# Altium footprint library CAPC2012X145L30N.PcbLib: 1 footprints
Each footprint in its own frame and in the unit in brackets; x right, y up, seen from the top. Pads: shape width x height; smd on the part's side, far side on the other; paste and mask are expansions set on the pad; w line width, h text height; cw(c..) or ccw(c..) is an arc to the next point about the centre after c.
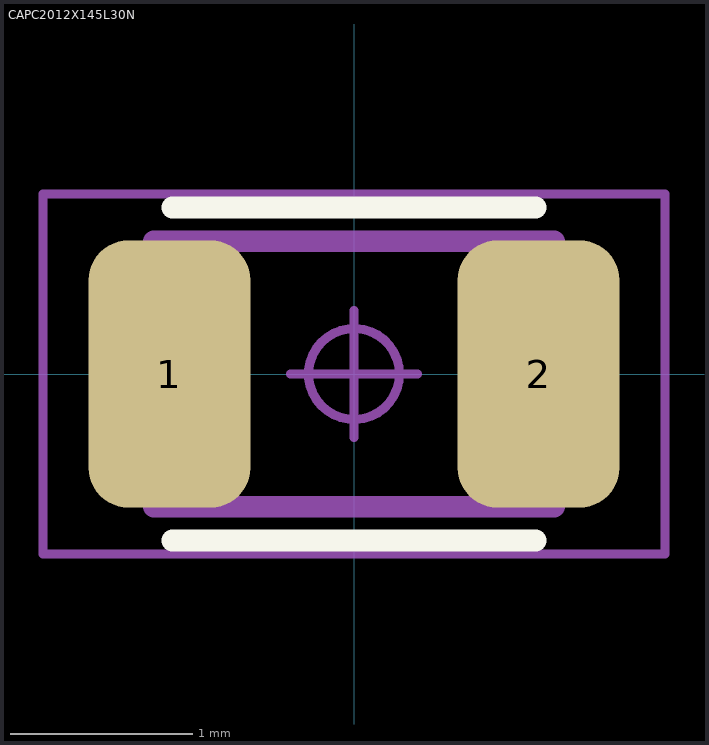
[diagram p0: the footprint, top view; thin cyan lines are the x and y axes]

## CAPC2012X145L30N [mm] "Capacitor, Chip; 2.00 mm L X 1.25 mm W X 1.45 mm H body"
height 1.45
pads (2):
  rrect49% 0.89x1.47 smd: 1(-1.015,0) 2(1.015,0)
Top Overlay:
  lines w0.12: -1,-0.915 1,-0.915 ; -1,0.915 1,0.915
Mechanical 11:
  lines w0.12: -1.1,-0.73 -1.1,0.73 1.1,0.73 1.1,-0.73 -1.1,-0.73
Mechanical 15:
  circle w0.05: c0,0 r0.25
  lines w0.05: -0.35,0 0.35,0 ; 0,-0.35 0,0.35 ; -1.71,-0.99 -1.71,0.99 1.71,0.99 1.71,-0.99 -1.71,-0.99
3D body: height 1.27, standoff 0, extent -1,-0.635 1,0.635